# EAGLE library part PIC16F193*? (library microchip)
Flash-Based, 8-Bit CMOS Microcontrollers wtih LCD Driver and nanoWatt XLP Technology Auto generated by make-symbol-device-package-bsdl.ulp Rev. 33 Source: http://ww1.microchip.com/downloads/en/DeviceDoc/41364D.pdf
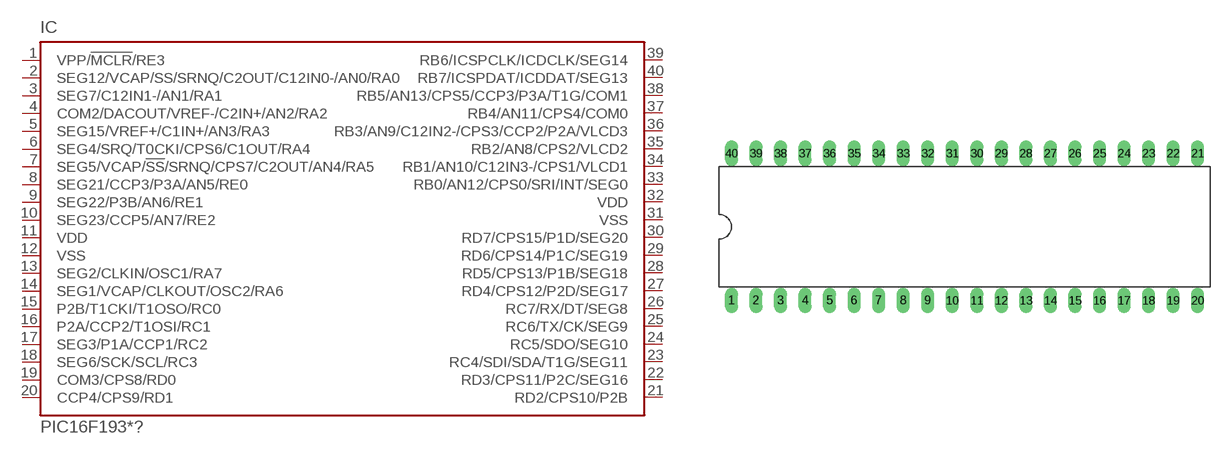
[diagram p111: symbol with the pads of DIL40; footprint DIL40]

Designator prefix IC

## PIC16F1934P (MPN: PIC16F1934-I/P; OC_FARNELL: 1755817; OC_NEWARK: 45P4755), PIC16F1937P (MPN: PIC16F1937-I/P; OC_FARNELL: 1755825; OC_NEWARK: 45P4774), PIC16F1939P (MPN: PIC16F1939-I/P; OC_FARNELL: 1755832; OC_NEWARK: 08R1958)  [DIL40]
1  VPP/!MCLR!/RE3  in
2  SEG12/VCAP/SS/SRNQ/C2OUT/C12IN0-/AN0/RA0
3  SEG7/C12IN1-/AN1/RA1
4  COM2/DACOUT/VREF-/C2IN+/AN2/RA2
5  SEG15/VREF+/C1IN+/AN3/RA3
6  SEG4/SRQ/T0CKI/CPS6/C1OUT/RA4
7  SEG5/VCAP/!SS!/SRNQ/CPS7/C2OUT/AN4/RA5
8  SEG21/CCP3/P3A/AN5/RE0
9  SEG22/P3B/AN6/RE1
10  SEG23/CCP5/AN7/RE2
11  VDD  pwr
12  VSS  pwr
13  SEG2/CLKIN/OSC1/RA7
14  SEG1/VCAP/CLKOUT/OSC2/RA6
15  P2B/T1CKI/T1OSO/RC0
16  P2A/CCP2/T1OSI/RC1
17  SEG3/P1A/CCP1/RC2
18  SEG6/SCK/SCL/RC3
19  COM3/CPS8/RD0
20  CCP4/CPS9/RD1
21  RD2/CPS10/P2B
22  RD3/CPS11/P2C/SEG16
23  RC4/SDI/SDA/T1G/SEG11
24  RC5/SDO/SEG10
25  RC6/TX/CK/SEG9
26  RC7/RX/DT/SEG8
27  RD4/CPS12/P2D/SEG17
28  RD5/CPS13/P1B/SEG18
29  RD6/CPS14/P1C/SEG19
30  RD7/CPS15/P1D/SEG20
31  VSS  pwr
32  VDD  pwr
33  RB0/AN12/CPS0/SRI/INT/SEG0
34  RB1/AN10/C12IN3-/CPS1/VLCD1
35  RB2/AN8/CPS2/VLCD2
36  RB3/AN9/C12IN2-/CPS3/CCP2/P2A/VLCD3
37  RB4/AN11/CPS4/COM0
38  RB5/AN13/CPS5/CCP3/P3A/T1G/COM1
39  RB6/ICSPCLK/ICDCLK/SEG14
40  RB7/ICSPDAT/ICDDAT/SEG13

## Footprint DIL40 (pad centres in mm)
Dual In Line package type P
drill 0.813 long: 1 -24.13,-7.62; 2 -21.59,-7.62; 3 -19.05,-7.62; 4 -16.51,-7.62; 5 -13.97,-7.62; 6 -11.43,-7.62; 7 -8.89,-7.62; 8 -6.35,-7.62; 9 -3.81,-7.62; 10 -1.27,-7.62; 11 1.27,-7.62; 12 3.81,-7.62; 13 6.35,-7.62; 14 8.89,-7.62; 15 11.43,-7.62; 16 13.97,-7.62; 17 16.51,-7.62; 18 19.05,-7.62; 19 21.59,-7.62; 20 24.13,-7.62; 21 24.13,7.62; 22 21.59,7.62; 23 19.05,7.62; 24 16.51,7.62; 25 13.97,7.62; 26 11.43,7.62; 27 8.89,7.62; 28 6.35,7.62; 29 3.81,7.62; 30 1.27,7.62; 31 -1.27,7.62; 32 -3.81,7.62; 33 -6.35,7.62; 34 -8.89,7.62; 35 -11.43,7.62; 36 -13.97,7.62; 37 -16.51,7.62; 38 -19.05,7.62; 39 -21.59,7.62; 40 -24.13,7.62